# Altium footprint library BY_PcbLib1.PcbLib: 21 footprints (part 1 of 2)
Each footprint in its own frame and in the unit in brackets; x right, y up, seen from the top. Pads: shape width x height; smd on the part's side, far side on the other; paste and mask are expansions set on the pad; w line width, h text height; cw(c..) or ccw(c..) is an arc to the next point about the centre after c.
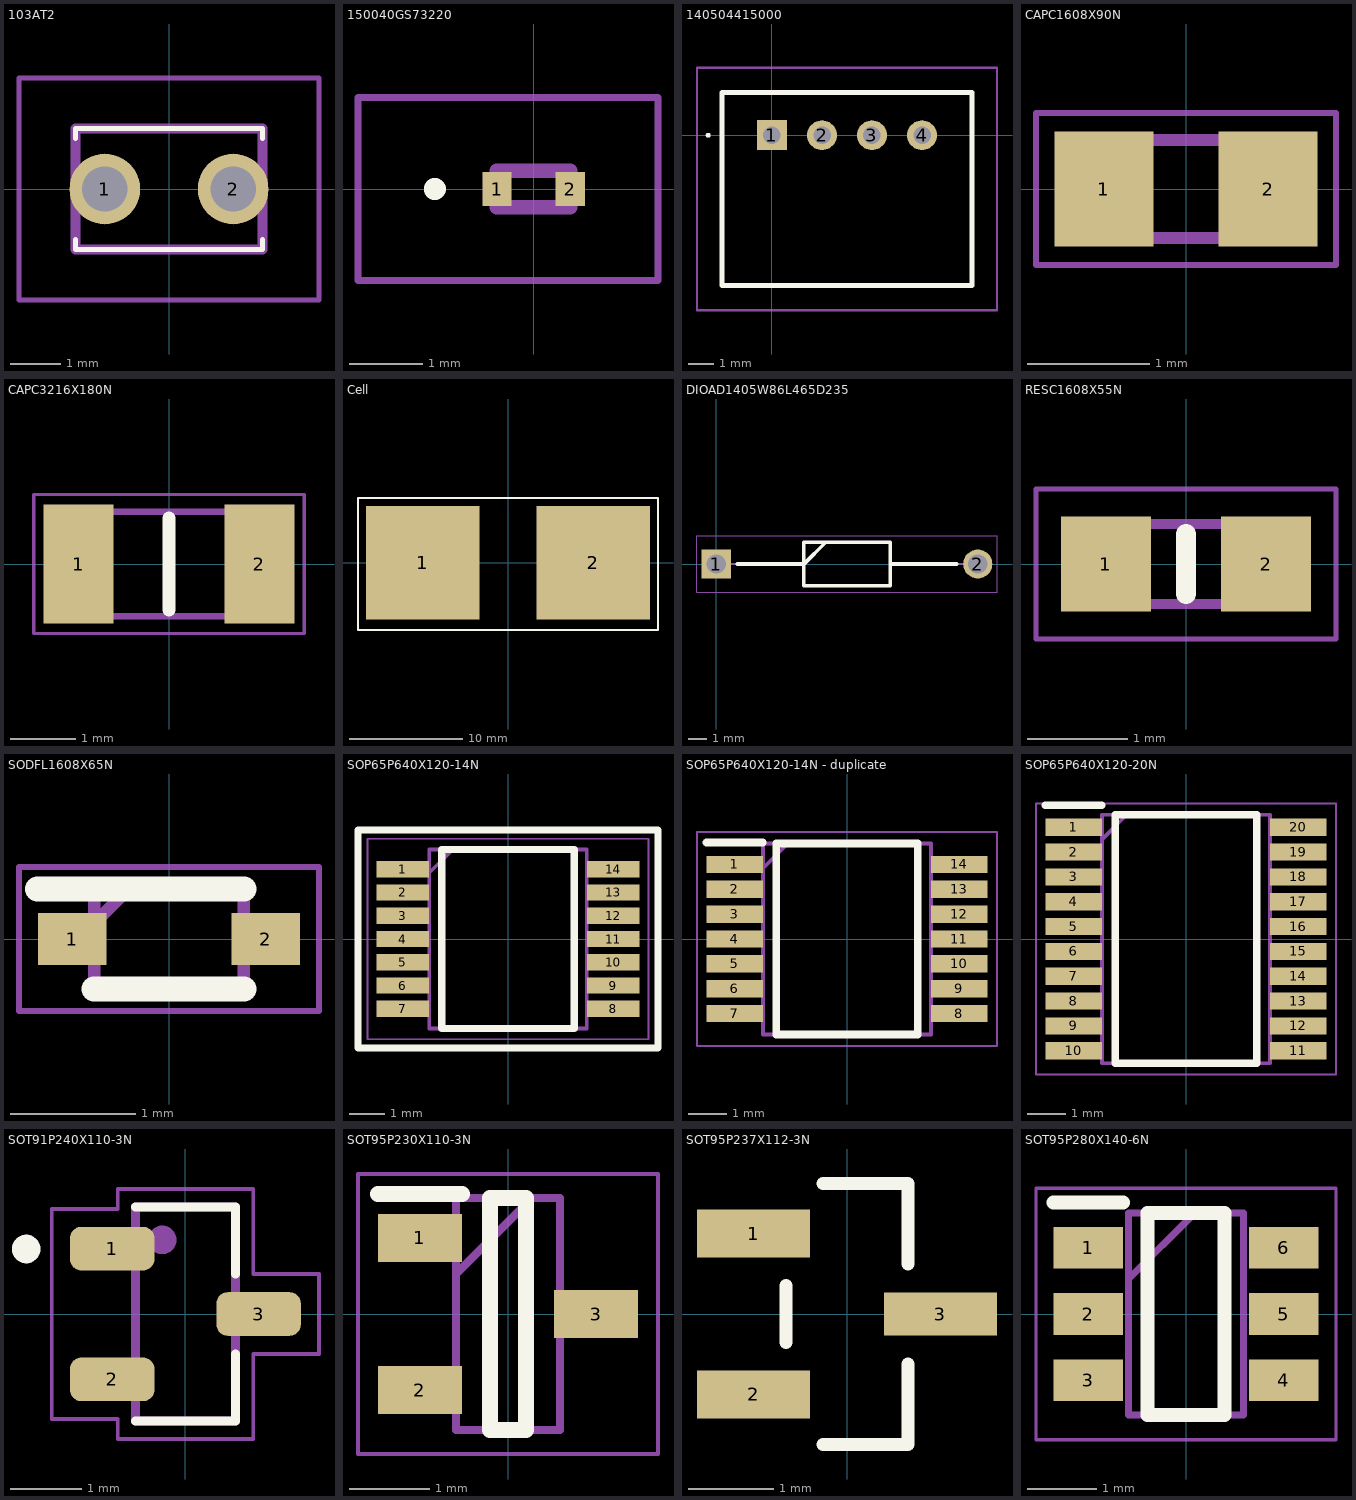
[diagram p0: the footprints below, top view; thin cyan lines are the x and y axes]

## 103AT2 [mm]
pads (2):
  round 1.4 hole 0.9: 1(-1.27,0) 2(1.27,0)
Top Overlay:
  lines w0.1: -1.85,-1 -1.85,-1.2 1.85,-1.2 1.85,-1 ; -1.85,1 -1.85,1.2 1.85,1.2 1.85,1
Mechanical 13:
  lines w0.2: -1.85,-1.2 1.85,-1.2 1.85,1.2 -1.85,1.2 -1.85,-1.2
Mechanical 15:
  lines w0.1: -2.97,-2.2 2.97,-2.2 2.97,2.2 -2.97,2.2 -2.97,-2.2
3D body "103AT-2.stp": height 8.1, standoff -5, extent -1.85,-1.2 1.85,1.2

## 150040GS73220 [mm]
pads (2):
  rect 0.4x0.46 smd: 1(-0.5,0) 2(0.5,0)
Top Overlay:
  lines w0.2: -1.4,0 cw(c-1.35,0) -1.3,0 ; -1.4,0 ccw(c-1.35,0) -1.3,0 ; -1.4,0 cw(c-1.35,0) -1.3,0
Mechanical 13:
  lines w0.2: -0.5,-0.25 -0.5,0.25 0.5,0.25 0.5,-0.25 -0.5,-0.25
Mechanical 15:
  lines w0.1: -2.4,-1.25 -2.4,1.25 1.7,1.25 1.7,-1.25 -2.4,-1.25
3D body "150040GS73220.stp": height 0.35, standoff 0, extent -0.5,-0.25 0.5,0.25

## 140504415000 [mm]
pads (4):
  rect 1.2x1.2 hole 0.7: 1(0,0)
  round 1.2 hole 0.7: 2(2,0) 3(4,0) 4(6,0)
Top Overlay:
  lines w0.1: -2.6,0 cw(c-2.55,0) -2.5,0 cw(c-2.55,0) -2.6,0
  lines w0.2: -2,-6 -2,1.7 8,1.7 8,-6 -2,-6
Mechanical 13:
  lines w0.1: -2,-6 -2,1.7 8,1.7 8,-6 -2,-6
Mechanical 15:
  lines w0.1: -3,-7 -3,2.7 9,2.7 9,-7 -3,-7
3D body "140-504-415-000.stp": height 5.35, standoff -5, extent -2,-6 8,1.7

## CAPC1608X90N [mm]
pads (2):
  rect 0.81x0.94 smd: 1(-0.67,0) 2(0.67,0)
Mechanical 13:
  lines w0.1: -0.8,-0.4 -0.8,0.4 0.8,0.4 0.8,-0.4 -0.8,-0.4
Mechanical 15:
  lines w0.05: -1.225,-0.62 -1.225,0.62 1.225,0.62 1.225,-0.62 -1.225,-0.62
3D body "EMK107B7104KAHT.stp": height 0.9, standoff 0, extent -0.8,-0.4 0.8,0.4

## CAPC3216X180N [mm]
pads (2):
  rect 1.07x1.82 smd: 1(-1.38,0) 2(1.38,0)
Top Overlay:
  lines w0.2: 0,-0.7 0,0.7
Mechanical 13:
  lines w0.1: -1.6,-0.8 1.6,-0.8 1.6,0.8 -1.6,0.8 -1.6,-0.8
Mechanical 15:
  lines w0.05: -2.065,-1.06 2.065,-1.06 2.065,1.06 -2.065,1.06 -2.065,-1.06
3D body "GRM31CD80J107MEA8L.stp": height 1.8, standoff 0, extent -1.6,-0.8 1.6,0.8

## Cell [mm]
pads (2):
  rect 10x10 smd: 1(-7.5,0) 2(7.5,0)
Top Overlay:
  lines w0.2: -13.2,-5.9 13.2,-5.9 13.2,5.7 -13.2,5.7 -13.2,-5.9

## DIOAD1405W86L465D235 [mm]
pads (2):
  rect 1.575x1.575 hole 1.05: 1(0,0)
  round 1.575 hole 1.05: 2(14.1,0)
Top Overlay:
  lines w0.2: 1.138,0 4.725,0 5.9,1.175 ; 9.375,0 12.962,0 ; 4.725,-1.175 9.375,-1.175 9.375,1.175 4.725,1.175 4.725,-1.175
Mechanical 13:
  lines w0.1: 0,0 4.725,0 5.9,1.175 ; 9.375,0 14.1,0 ; 4.725,-1.175 9.375,-1.175 9.375,1.175 4.725,1.175 4.725,-1.175
Mechanical 15:
  lines w0.05: -1.038,-1.525 15.137,-1.525 15.137,1.525 -1.038,1.525 -1.038,-1.525
3D body "1N4007-E3_73.stp": height 2.69, standoff -2.7, extent -0.427,-1.347 14.48,1.347

## RESC1608X55N [mm]
pads (2):
  rect 0.9x0.95 smd: 1(-0.8,0) 2(0.8,0)
Top Overlay:
  lines w0.2: 0,-0.3 0,0.3
Mechanical 13:
  lines w0.1: -0.8,-0.4 -0.8,0.4 0.8,0.4 0.8,-0.4 -0.8,-0.4
Mechanical 15:
  lines w0.05: -1.5,-0.75 -1.5,0.75 1.5,0.75 1.5,-0.75 -1.5,-0.75
3D body "CR0603-FX-1003ELF.stp": height 0.55, standoff 0, extent -0.8,-0.4 0.8,0.4

## SODFL1608X65N [mm]
pads (2):
  rect 0.55x0.42 smd: 1(-0.775,0) 2(0.775,0)
Top Overlay:
  lines w0.2: -1.05,0.4 0.6,0.4 ; -0.6,-0.4 0.6,-0.4
Mechanical 13:
  lines w0.1: -0.6,0.125 -0.325,0.4 ; -0.6,-0.4 0.6,-0.4 0.6,0.4 -0.6,0.4 -0.6,-0.4
Mechanical 15:
  lines w0.05: -1.2,-0.575 1.2,-0.575 1.2,0.575 -1.2,0.575 -1.2,-0.575
3D body "BZT52C5V6T-7.stp": height 0.65, standoff 0, extent -0.8,-0.4 0.8,0.4

## SOP65P640X120-14N [mm]
pads (14):
  rect 1.475x0.45 smd: 1(-2.938,1.95) 2(-2.938,1.3) 3(-2.938,0.65) 4(-2.938,0) 5(-2.938,-0.65) 6(-2.938,-1.3) 7(-2.938,-1.95) 8(2.938,-1.95) 9(2.938,-1.3) 10(2.938,-0.65) 11(2.938,0) 12(2.938,0.65) 13(2.938,1.3) 14(2.938,1.95)
Top Overlay:
  lines w0.2: -4.191,-3.048 -4.191,3.048 4.191,3.048 4.191,-3.048 -4.191,-3.048 ; -1.85,-2.5 1.85,-2.5 1.85,2.5 -1.85,2.5 -1.85,-2.5
Mechanical 13:
  lines w0.1: -2.2,1.85 -1.55,2.5 ; -2.2,-2.5 2.2,-2.5 2.2,2.5 -2.2,2.5 -2.2,-2.5
Mechanical 15:
  lines w0.05: -3.925,-2.8 3.925,-2.8 3.925,2.8 -3.925,2.8 -3.925,-2.8
3D body "BQ34Z100PWR.stp": height 1.13, standoff 0, extent -3.2,-2.5 3.2,2.5

## SOP65P640X120-14N - duplicate [mm]
pads (14):
  rect 1.475x0.45 smd: 1(-2.938,1.95) 2(-2.938,1.3) 3(-2.938,0.65) 4(-2.938,0) 5(-2.938,-0.65) 6(-2.938,-1.3) 7(-2.938,-1.95) 8(2.938,-1.95) 9(2.938,-1.3) 10(2.938,-0.65) 11(2.938,0) 12(2.938,0.65) 13(2.938,1.3) 14(2.938,1.95)
Top Overlay:
  lines w0.2: -3.675,2.525 -2.2,2.525 ; -1.85,-2.5 -1.85,2.5 1.85,2.5 1.85,-2.5 -1.85,-2.5
Mechanical 13:
  lines w0.1: -2.2,1.85 -1.55,2.5 ; -2.2,-2.5 -2.2,2.5 2.2,2.5 2.2,-2.5 -2.2,-2.5
Mechanical 15:
  lines w0.05: -3.925,-2.8 -3.925,2.8 3.925,2.8 3.925,-2.8 -3.925,-2.8
3D body "BQ34Z100PWR.stp": height 1.13, standoff 0, extent -3.2,-2.5 3.2,2.5

## SOP65P640X120-20N [mm]
pads (20):
  rect 1.475x0.45 smd: 1(-2.938,2.925) 2(-2.938,2.275) 3(-2.938,1.625) 4(-2.938,0.975) 5(-2.938,0.325) 6(-2.938,-0.325) 7(-2.938,-0.975) 8(-2.938,-1.625) 9(-2.938,-2.275) 10(-2.938,-2.925) 11(2.938,-2.925) 12(2.938,-2.275) 13(2.938,-1.625) 14(2.938,-0.975) 15(2.938,-0.325) 16(2.938,0.325) 17(2.938,0.975) 18(2.938,1.625) 19(2.938,2.275) 20(2.938,2.925)
Top Overlay:
  lines w0.2: -3.675,3.5 -2.2,3.5 ; -1.85,-3.25 1.85,-3.25 1.85,3.25 -1.85,3.25 -1.85,-3.25
Mechanical 13:
  lines w0.1: -2.2,2.6 -1.55,3.25 ; -2.2,-3.25 2.2,-3.25 2.2,3.25 -2.2,3.25 -2.2,-3.25
Mechanical 15:
  lines w0.05: -3.925,-3.55 3.925,-3.55 3.925,3.55 -3.925,3.55 -3.925,-3.55
3D body "BQ7790500PW.stp": height 1.2, standoff 0, extent -3.2,-3.25 3.2,3.25

## SOT91P240X110-3N [mm]
pads (3):
  rrect50% 1.18x0.61 smd: 1(-1.025,0.915) 2(-1.025,-0.915) 3(1.025,0)
Top Overlay:
  circle w0.2: c-2.23,0.91 r0.1
  lines w0.127: -0.7,-1.5 0.7,-1.5 0.7,-0.56 ; -0.7,1.5 0.7,1.5 0.7,0.56
Mechanical 13:
  circle w0.2: c-0.325,1.037 r0.1
  lines w0.127: -0.7,-1.5 0.7,-1.5 0.7,1.5 -0.7,1.5 -0.7,-1.5
Mechanical 15:
  lines w0.05: -1.87,-1.47 -0.95,-1.47 -0.95,-1.75 0.95,-1.75 0.95,-0.56 1.87,-0.56 1.87,0.56 0.95,0.56 0.95,1.75 -0.95,1.75 -0.95,1.47 -1.87,1.47 -1.87,-1.47
3D body "step_temp.STEP": height 1.11, standoff 0.01, extent -1.31,-1.5 1.31,1.5

## SOT95P230X110-3N [mm]
pads (3):
  rect 1.05x0.6 smd: 1(-1.1,0.95) 2(-1.1,-0.95) 3(1.1,0)
Top Overlay:
  lines w0.2: -1.625,1.5 -0.575,1.5 ; -0.225,-1.45 -0.225,1.45 0.225,1.45 0.225,-1.45 -0.225,-1.45
Mechanical 13:
  lines w0.1: -0.65,0.5 0.3,1.45 ; -0.65,-1.45 -0.65,1.45 0.65,1.45 0.65,-1.45 -0.65,-1.45
Mechanical 15:
  lines w0.05: -1.875,-1.75 -1.875,1.75 1.875,1.75 1.875,-1.75 -1.875,-1.75
3D body "BSS84,215.stp": height 0.95, standoff 0, extent -1.201,-1.448 1.199,1.452

## SOT95P237X112-3N [mil]
pads (3):
  rect 52x22 smd: 1(-43,37) 2(-43,-37)
  rect 52x20 smd: 3(43,0)
Top Overlay:
  lines w6: -28,-13 -28,13 ; -11,-60 28,-60 28,-23 ; -11,60 12,60 28,60 28,23
3D body "TL431ACDBZR.stp": height 39.57, standoff 0, extent -50,-57.48 50,57.48

## SOT95P280X140-6N [mm]
pads (6):
  rect 1x0.6 smd: 1(-1.4,0.95) 2(-1.4,0) 3(-1.4,-0.95) 4(1.4,-0.95) 5(1.4,0) 6(1.4,0.95)
Top Overlay:
  lines w0.2: -1.9,1.6 -0.9,1.6 ; -0.55,-1.45 0.55,-1.45 0.55,1.45 -0.55,1.45 -0.55,-1.45
Mechanical 13:
  lines w0.1: -0.825,0.5 0.125,1.45 ; -0.825,-1.45 0.825,-1.45 0.825,1.45 -0.825,1.45 -0.825,-1.45
Mechanical 15:
  lines w0.05: -2.15,-1.8 2.15,-1.8 2.15,1.8 -2.15,1.8 -2.15,-1.8
3D body "R5460N212AF-TR-FE.stp": height 1.4, standoff 0, extent -1.4,-1.45 1.4,1.45